# EAGLE library part PINHEAD-2X08 (library rfid)
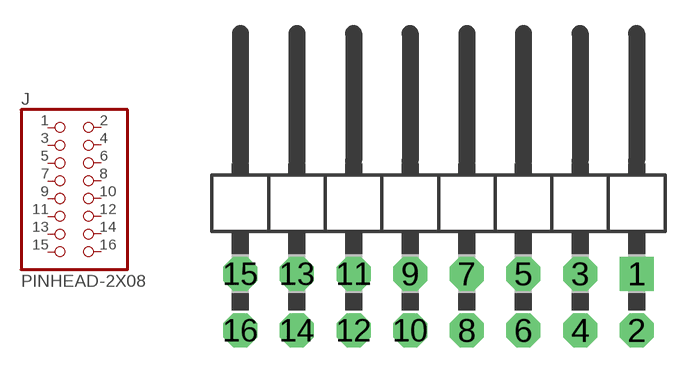
[diagram p7: symbol with the pads of 2X08/90; footprint 2X08/90]

Designator prefix J

## PINHEAD-2X08  [2X08/90]
1  1  pas
2  2  pas
3  3  pas
4  4  pas
5  5  pas
6  6  pas
7  7  pas
8  8  pas
9  9  pas
10  10  pas
11  11  pas
12  12  pas
13  13  pas
14  14  pas
15  15  pas
16  16  pas

## Footprint 2X08/90 (pad centres in mm)
PIN HEADER
drill 1.016 square: 1 8.89,-3.81
drill 1.016 octagon: 2 8.89,-6.35; 3 6.35,-3.81; 4 6.35,-6.35; 5 3.81,-3.81; 6 3.81,-6.35; 7 1.27,-3.81; 8 1.27,-6.35; 9 -1.27,-3.81; 10 -1.27,-6.35; 11 -3.81,-3.81; 12 -3.81,-6.35; 13 -6.35,-3.81; 14 -6.35,-6.35; 15 -8.89,-3.81; 16 -8.89,-6.35